# Altium schematic symbol library te_connectivity_audio_video_connectors.SchLib: 2 symbols
Pins are listed as number, name and electrical type; pins without a type are passive.

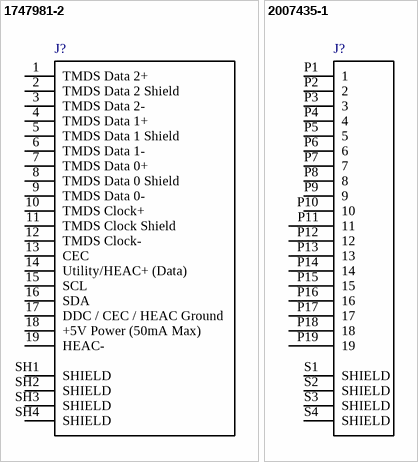
[diagram p0: symbols 1747981-2 to 2007435-1]

## 1747981-2
designator J?  (value not drawn)
Conn HDMI RCP 19 POS 0.5mm Solder ST SMD 19 Terminal 1 Port T/R; MF: TE Connectivity; Package: None; TE_purchase_URL: https://www.te.com/usa-en/product-1747981-2.html?te_bu=Cor&te_type=disp&te_campaign=seda_glo_cor-seda-global-disp-prtnr-fy19-seda-model-bom-cta_sma-317_1&elqCampaignId=32493; MP: 1747981-2; EU_RoHS_Compliance: Compliant; Availability: Unavailable; SnapEDA_Link: https://www.snapeda.com/parts/1747981-2/TE%20Connectivity%20AMP%20Connectors/view-part/?ref=snap; Price: None; Value: *
footprint TE_1747981-2_1747981-2(Primary)
pins: 1 TMDS Data 2+, 2 TMDS Data 2 Shield, 3 TMDS Data 2-, 4 TMDS Data 1+, 5 TMDS Data 1 Shield, 6 TMDS Data 1-, 7 TMDS Data 0+, 8 TMDS Data 0 Shield, 9 TMDS Data 0-, 10 TMDS Clock+, 11 TMDS Clock Shield, 12 TMDS Clock-, 13 CEC, 14 Utility/HEAC+ (Data), 15 SCL, 16 SDA, 17 DDC / CEC / HEAC Ground, 18 +5V Power (50mA Max), 19 HEAC-, SH1 SHIELD, SH2 SHIELD, SH3 SHIELD, SH4 SHIELD

## 2007435-1
designator J?  (value not drawn)
UPDATE
footprint TE_2007435-1_2007435-1(Primary)
pins: P1 1, P2 2, P3 3, P4 4, P5 5, P6 6, P7 7, P8 8, P9 9, P10 10, P11 11, P12 12, P13 13, P14 14, P15 15, P16 16, P17 17, P18 18, P19 19, S1 SHIELD, S2 SHIELD, S3 SHIELD, S4 SHIELD